# Altium schematic symbol library IC.SchLib: 125 symbols (part 2 of 2)
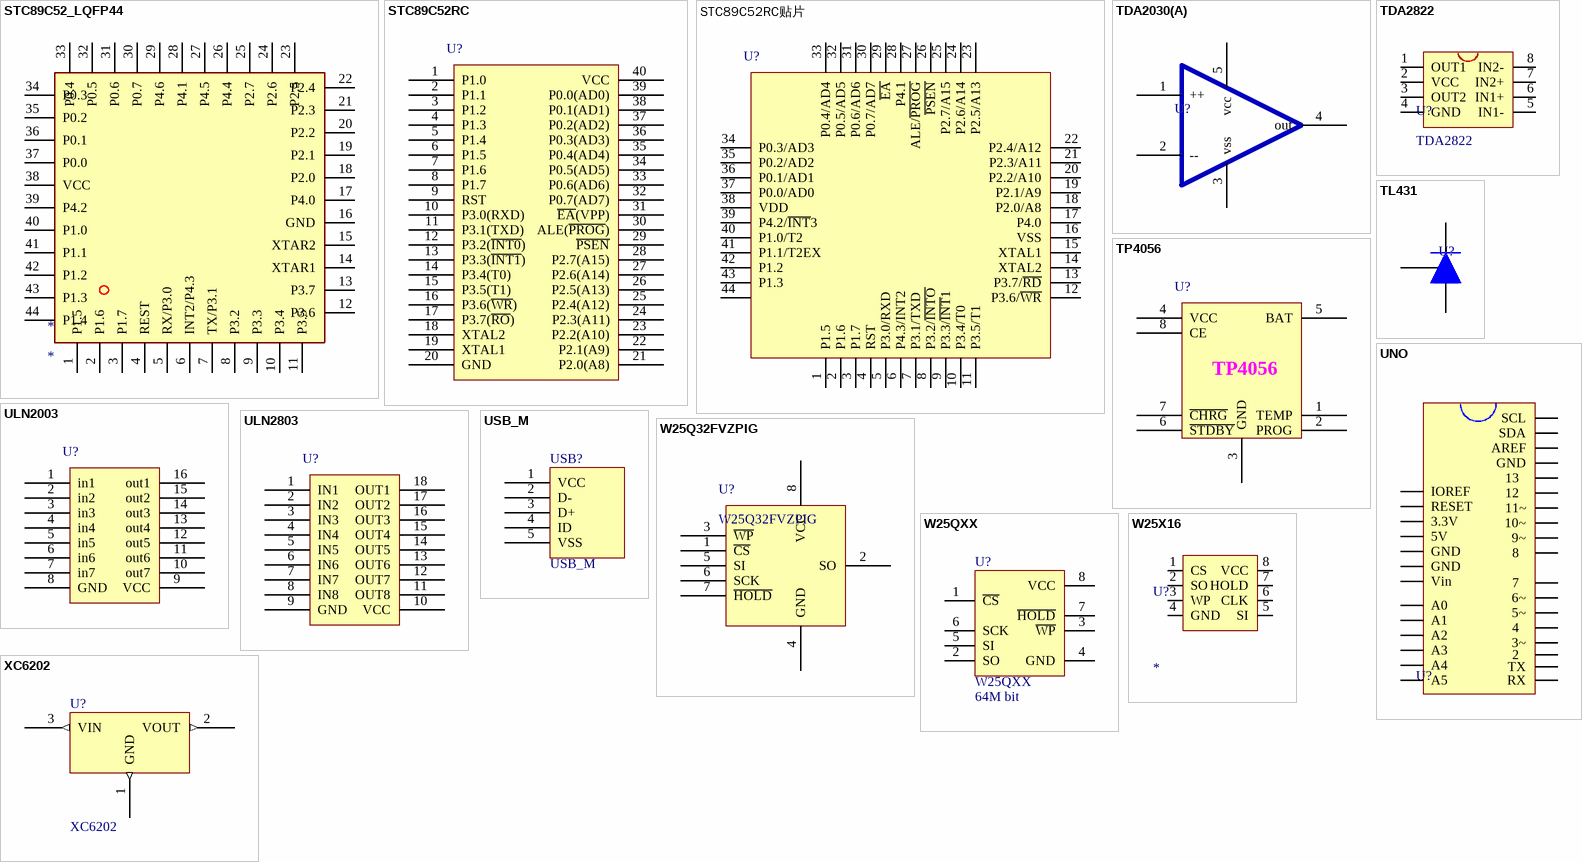
[diagram p12: symbols STC89C52_LQFP44 to XC6202]

## TDA2030(A)
designator U?, comment TDA  (value not drawn)
footprint TO200-5
pins: 1 ++, 2 --, 3 vss, 4 out, 5 vcc

## TDA2822
designator U?
footprint DIP8
pins: 1 OUT1, 2 VCC, 3 OUT2, 4 GND, 5 IN1-, 6 IN1+, 7 IN2+, 8 IN2-

## TL431
designator U?  (value not drawn)
footprint TO-92_Bent
footprint TO-92_Str
footprint TL431A SOT-23-2
footprint TL431A STO-23-1
pins: 1 R, 2 A, 3 K

## TP4056
designator U?  (value not drawn)
footprint TP4056
pins: 1 TEMP, 2 PROG, 3 GND, 4 VCC, 5 BAT, 6 ~{STDBY}, 7 ~{CHRG}, 8 CE

## ULN2003
designator U?  (value not drawn)
footprint SOP-16
pins: 1 in1, 2 in2, 3 in3, 4 in4, 5 in5, 6 in6, 7 in7, 8 GND, 9 VCC, 10 out7, 11 out6, 12 out5, 13 out4, 14 out3, 15 out2, 16 out1

## ULN2803
designator U?  (value not drawn)
footprint SOP-18
pins: 1 IN1, 2 IN2, 3 IN3, 4 IN4, 5 IN5, 6 IN6, 7 IN7, 8 IN8, 9 GND, 10 VCC, 11 OUT8, 12 OUT7, 13 OUT6, 14 OUT5, 15 OUT4, 16 OUT3, 17 OUT2, 18 OUT1

## UNO
designator U?, comment uno  (value not drawn)
footprint UNO
pins: 1 IOREF, 2 RESET, 3 3.3V (power), 4 5V (power), 5 GND (power), 6 GND (power), 7 Vin (power), 8 A0, 9 A1, 10 A2, 11 A3, 12 A4, 13 A5, 14 RX, 15 TX, 16 2  , 17 3~, 18 4  , 19 5~, 20 6~, 21 7  , 22 8  , 23 9~, 24 10~, 25 11~, 26 12  , 27 13  , 28 GND (power), 29 AREF (power), 30 SDA, 31 SCL

## USB_M
designator USB?
Micro/Mini USB
footprint USB_MICRO (USB方孔)
footprint USB/SM0.8-6H5 (Connector; USB2.0, Type B, SM; 5 Position; Right Angle)
footprint MICROUSB
pins: 1 VCC, 2 D-, 3 D+, 4 ID, 5 VSS

## W25Q32FVZPIG
designator U?
footprint WSON-8
pins: 1 ~{CS}, 2 SO, 3 ~{WP}, 4 GND, 5 SI, 6 SCK, 7 ~{HOLD}, 8 VCC

## W25QXX
designator U?  Memory: 64M bit
SPI FLASH
footprint SOIC-8W (SPI_FLASH)
pins: 1 ~{CS}, 2 SO, 3 ~{WP}, 4 GND, 5 SI, 6 SCK, 7 ~{HOLD}, 8 VCC

## W25X16
designator U?
footprint SOP-8
pins: 1 CS, 2 SO, 3 WP, 4 GND, 5 SI, 6 CLK, 7 HOLD, 8 VCC

## XC6202
designator U?
footprint SOT23-3
pins: 1 GND (out), 2 VOUT (out), 3 VIN (out)